# Altium footprint library TOSLINK_GQ-04.PcbLib: 1 footprints
Each footprint in its own frame and in the unit in brackets; x right, y up, seen from the top. Pads: shape width x height; smd on the part's side, far side on the other; paste and mask are expansions set on the pad; w line width, h text height; cw(c..) or ccw(c..) is an arc to the next point about the centre after c.
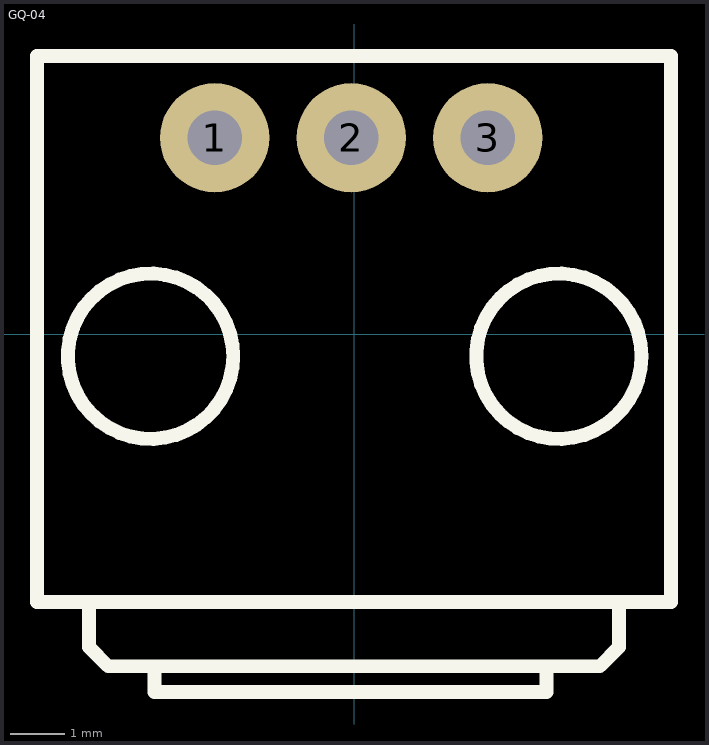
[diagram p0: the footprint, top view; thin cyan lines are the x and y axes]

## GQ-04 [mm]
pads (3):
  round 2 hole 1: 1(-2.55,3.6) 2(-0.05,3.6) 3(2.45,3.6)
Top Overlay:
  circle w0.254: c3.75,-0.4 r1.513
  circle w0.254: c-3.725,-0.4 r1.513
  lines w0.254: -4.85,-4.9 -4.85,-5.725 -4.5,-6.075 4.5,-6.075 4.85,-5.725 4.85,-4.9 ; -3.65,-6.075 -3.65,-6.55 3.525,-6.55 ; 3.525,-6.075 3.525,-6.55 ; 3.525,-6.55 3.525,-6.55 ; -5.8,-4.9 5.8,-4.9 5.8,5.1 -5.8,5.1 -5.8,-4.9
3D body: height 9.85, standoff -3.75, extent -4.9,-7.575 4.8,5.925